# Altium footprint library PcbLib1.PcbLib: 26 footprints (part 2 of 2)
Each footprint in its own frame and in the unit in brackets; x right, y up, seen from the top. Pads: shape width x height; smd on the part's side, far side on the other; paste and mask are expansions set on the pad; w line width, h text height; cw(c..) or ccw(c..) is an arc to the next point about the centre after c.
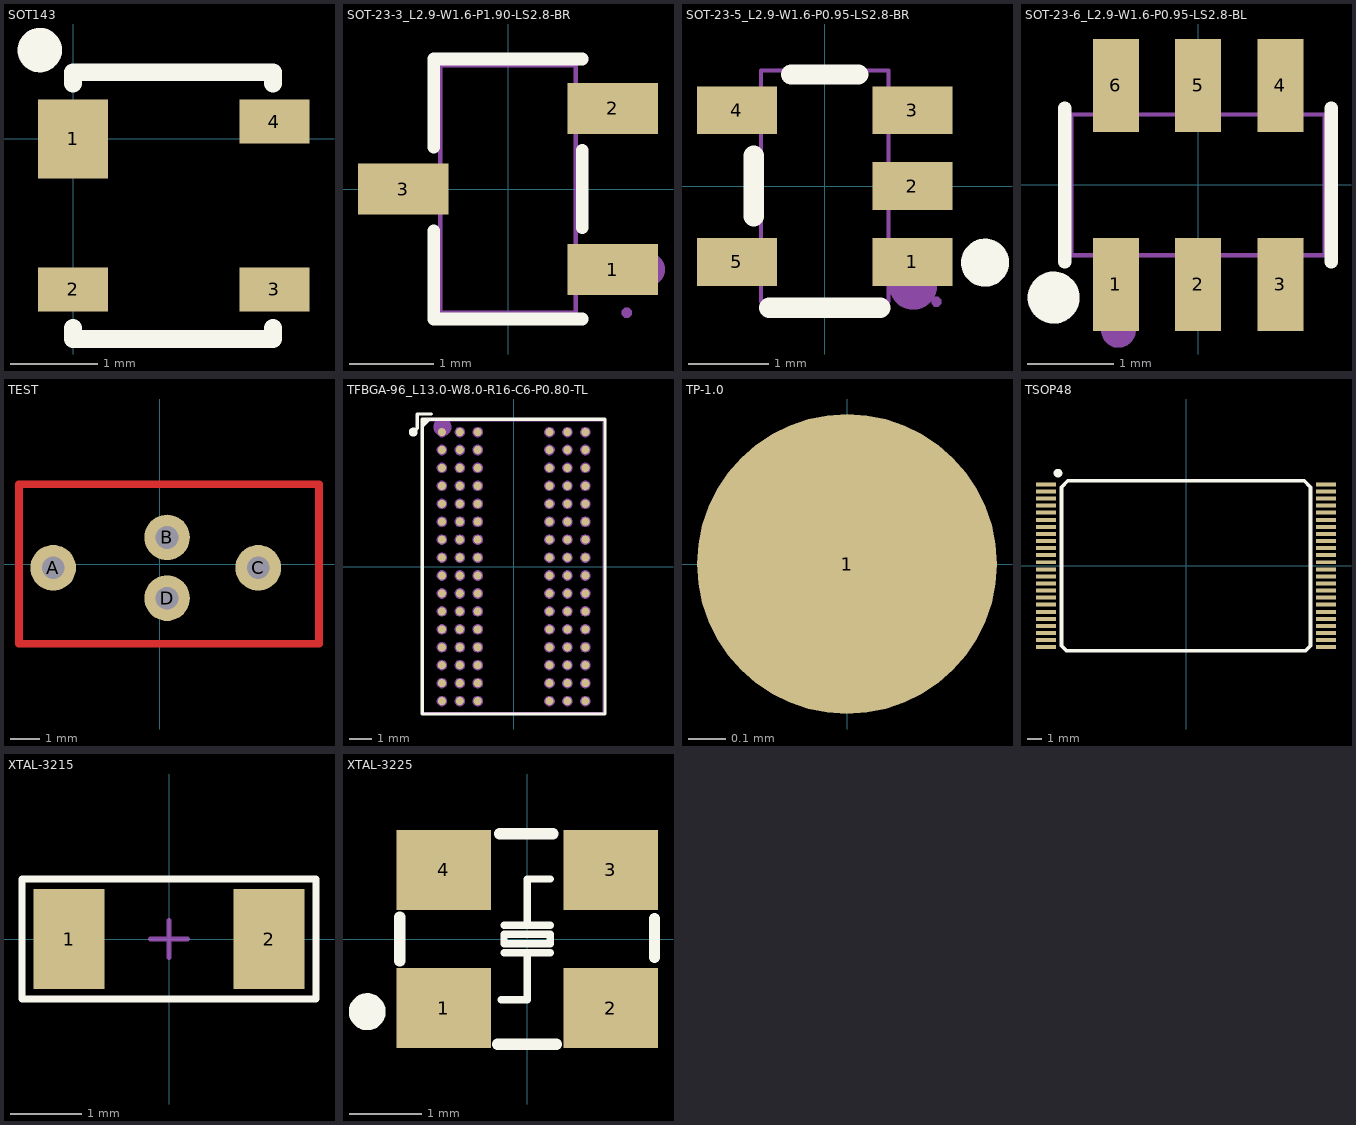
[diagram p1: the footprints below, top view; thin cyan lines are the x and y axes]

## SOT143 [mm]
pads (4):
  rect 0.8x0.9 smd: 1(0,0)
  rect 0.8x0.5 smd: 2(0,-1.72) 3(2.3,-1.72) 4(2.3,0.2)
Top Overlay:
  circle w0.254: c-0.381,1.016 r0.127
  lines w0.203: 0,-2.159 0,-2.286 2.286,-2.286 2.286,-2.159 ; 0,0.635 0,0.762 2.286,0.762 2.286,0.635

## SOT-23-3_L2.9-W1.6-P1.90-LS2.8-BR [mm]
pads (3):
  rect 1.07x0.6 smd: 1(1.235,-0.95) 2(1.235,0.95) 3(-1.235,0)
Top Overlay:
  lines w0.152: -0.876,-0.495 -0.876,-1.536 0.876,-1.536 ; -0.876,0.495 -0.876,1.536 0.876,1.536 ; 0.876,-0.455 0.876,0.455
Mechanical 6:
  circle w0.2: c1.651,-0.95 r0.1
Mechanical 15:
  region: -0.96,-0.2 -0.96,0.2 -0.79,0.2 -0.79,-0.2
  region: -0.95,-0.2 -0.95,0.2 -1.4,0.2 -1.4,-0.2
  region: 0.79,0.75 0.79,1.15 0.96,1.15 0.96,0.75
  region: 0.95,0.75 0.95,1.15 1.4,1.15 1.4,0.75
  region: 0.79,-1.15 0.79,-0.75 0.96,-0.75 0.96,-1.15
  region: 0.95,-1.15 0.95,-0.75 1.4,-0.75 1.4,-1.15
  region: 1.46,-1.46 1.46,-1.435 1.425,-1.4 1.375,-1.4 1.34,-1.435 1.34,-1.46 1.34,-1.485 1.375,-1.52 1.425,-1.52 1.46,-1.485 1.46,-1.46
  lines w0.051: -0.8,-1.46 0.8,-1.46 0.8,1.46 -0.8,1.46 -0.8,-1.46

## SOT-23-5_L2.9-W1.6-P0.95-LS2.8-BR [mm]
pads (5):
  rect 1x0.6 smd paste+0 mask+0.05: 1(1.1,-0.95) 2(1.1,0) 3(1.1,0.95) 4(-1.1,0.95) 5(-1.1,-0.95)
Top Overlay:
  circle w0.3: c2.01,-0.96 r0.15
  lines w0.254: -0.889,-0.381 -0.889,0.381 ; -0.699,-1.524 0.698,-1.524 ; -0.422,1.397 0.422,1.397
Mechanical 6:
  circle w0.3: c1.11,-1.25 r0.15
Mechanical 15:
  region: 1.46,-1.45 1.46,-1.425 1.425,-1.39 1.375,-1.39 1.34,-1.425 1.34,-1.45 1.34,-1.475 1.375,-1.51 1.425,-1.51 1.46,-1.475 1.46,-1.45
  region: -0.95,-1.15 -1.4,-1.15 -1.4,-0.75 -0.95,-0.75
  region: -0.79,-1.15 -0.96,-1.15 -0.96,-0.75 -0.79,-0.75
  region: -0.95,0.75 -1.4,0.75 -1.4,1.15 -0.95,1.15
  region: -0.79,0.75 -0.96,0.75 -0.96,1.15 -0.79,1.15
  region: 1.4,-1.15 0.95,-1.15 0.95,-0.75 1.4,-0.75
  region: 0.96,-1.15 0.79,-1.15 0.79,-0.75 0.96,-0.75
  region: 1.4,0.75 0.95,0.75 0.95,1.15 1.4,1.15
  region: 0.96,0.75 0.79,0.75 0.79,1.15 0.96,1.15
  region: 1.4,-0.2 0.95,-0.2 0.95,0.2 1.4,0.2
  region: 0.96,-0.2 0.79,-0.2 0.79,0.2 0.96,0.2
  lines w0.051: -0.8,-1.45 0.8,-1.45 0.8,1.45 -0.8,1.45 -0.8,-1.45

## SOT-23-6_L2.9-W1.6-P0.95-LS2.8-BL [mm]
pads (6):
  rect 0.532x1.072 smd: 1(-0.95,-1.149) 2(0,-1.149) 3(0.95,-1.149) 4(0.95,1.149) 5(0,1.149) 6(-0.95,1.149)
Top Overlay:
  circle w0.3: c-1.668,-1.301 r0.15
  lines w0.152: -1.539,-0.889 -1.539,0.889 ; 1.539,-0.889 1.539,0.889
Mechanical 6:
  circle w0.2: c-0.92,-1.68 r0.1
Mechanical 15:
  region: -1.403,-1.4 -1.404,-1.376 -1.439,-1.341 -1.488,-1.341 -1.522,-1.376 -1.523,-1.4 -1.522,-1.425 -1.487,-1.459 -1.438,-1.459 -1.404,-1.424 -1.403,-1.4
  region: -1.165,-0.925 -0.735,-0.925 -0.735,-1.4 -1.165,-1.4
  region: -1.165,-0.803 -0.735,-0.803 -0.735,-0.935 -1.165,-0.935
  region: -0.215,-0.925 0.215,-0.925 0.215,-1.4 -0.215,-1.4
  region: -0.215,-0.803 0.215,-0.803 0.215,-0.935 -0.215,-0.935
  region: 0.735,-0.925 1.165,-0.925 1.165,-1.4 0.735,-1.4
  region: 0.735,-0.803 1.165,-0.803 1.165,-0.935 0.735,-0.935
  region: 0.735,0.925 1.165,0.925 1.165,1.4 0.735,1.4
  region: 0.735,0.935 1.165,0.935 1.165,0.803 0.735,0.803
  region: -0.215,0.925 0.215,0.925 0.215,1.4 -0.215,1.4
  region: -0.215,0.935 0.215,0.935 0.215,0.803 -0.215,0.803
  region: -1.165,0.925 -0.735,0.925 -0.735,1.4 -1.165,1.4
  region: -1.165,0.935 -0.735,0.935 -0.735,0.803 -1.165,0.803
  lines w0.051: -1.463,-0.813 1.463,-0.813 1.463,0.813 -1.463,0.813 -1.463,-0.813

## TEST [mil] "this is a test"
pads (4):
  round 60 hole 30: A(-140,-5) B(10,35) C(130,-5) D(10,-45)
Top Layer:
  lines w10: -185,-105 210,-105 210,-85 210,75 210,105 -185,105 -185,75 -185,-85 -185,-105

## TFBGA-96_L13.0-W8.0-R16-C6-P0.80-TL [mm]
pads (96):
  round 0.36 smd paste+0 mask+0.05: A1(-3.2,6) A2(-2.4,6) A3(-1.6,6) A7(1.6,6) A8(2.4,6) A9(3.2,6) B1(-3.2,5.2) B2(-2.4,5.2) B3(-1.6,5.2) B7(1.6,5.2) B8(2.4,5.2) B9(3.2,5.2) C1(-3.2,4.4) C2(-2.4,4.4) C3(-1.6,4.4) C7(1.6,4.4) C8(2.4,4.4) C9(3.2,4.4) D1(-3.2,3.6) D2(-2.4,3.6) D3(-1.6,3.6) D7(1.6,3.6) D8(2.4,3.6) D9(3.2,3.6) E1(-3.2,2.8) E2(-2.4,2.8) E3(-1.6,2.8) E7(1.6,2.8) E8(2.4,2.8) E9(3.2,2.8) F1(-3.2,2) F2(-2.4,2) F3(-1.6,2) F7(1.6,2) F8(2.4,2) F9(3.2,2) G1(-3.2,1.2) G2(-2.4,1.2) G3(-1.6,1.2) G7(1.6,1.2) G8(2.4,1.2) G9(3.2,1.2) H1(-3.2,0.4) H2(-2.4,0.4) H3(-1.6,0.4) H7(1.6,0.4) H8(2.4,0.4) H9(3.2,0.4) J1(-3.2,-0.4) J2(-2.4,-0.4) J3(-1.6,-0.4) J7(1.6,-0.4) J8(2.4,-0.4) J9(3.2,-0.4) K1(-3.2,-1.2) K2(-2.4,-1.2) K3(-1.6,-1.2) K7(1.6,-1.2) K8(2.4,-1.2) K9(3.2,-1.2) L1(-3.2,-2) L2(-2.4,-2) L3(-1.6,-2) L7(1.6,-2) L8(2.4,-2) L9(3.2,-2) M1(-3.2,-2.8) M2(-2.4,-2.8) M3(-1.6,-2.8) M7(1.6,-2.8) M8(2.4,-2.8) M9(3.2,-2.8) N1(-3.2,-3.6) N2(-2.4,-3.6) N3(-1.6,-3.6) N7(1.6,-3.6) N8(2.4,-3.6) N9(3.2,-3.6) P1(-3.2,-4.4) P2(-2.4,-4.4) P3(-1.6,-4.4) P7(1.6,-4.4) P8(2.4,-4.4) P9(3.2,-4.4) R1(-3.2,-5.2) R2(-2.4,-5.2) R3(-1.6,-5.2) R7(1.6,-5.2) R8(2.4,-5.2) R9(3.2,-5.2) T1(-3.2,-6) T2(-2.4,-6) T3(-1.6,-6) T7(1.6,-6) T8(2.4,-6) T9(3.2,-6)
Top Overlay:
  circle w0.2: c-4.476,6 r0.1
  region: -3.676,6.576 -4.076,6.176 -4.076,6.576
  lines w0.152: -4.305,6.176 -4.305,6.805 -3.676,6.805 ; -4.076,-6.576 -4.076,6.576 4.076,6.576 4.076,-6.576 -4.076,-6.576
Mechanical 6:
  circle w0.4: c-3.175,6.223 r0.2
  region: -3.676,6.576 -4.076,6.176 -4.076,6.576
Mechanical 15:
  drawing of 101 lines, arcs and shapes, not listed

## TP-1.0 [mm]
pads (1):
  round 0.8 smd: 1(0,0)

## TSOP48 [mm]
pads (48):
  rect 1.4x0.28 smd: 1(-9.9,5.75) 2(-9.9,5.25) 3(-9.9,4.75) 4(-9.9,4.25) 5(-9.9,3.75) 6(-9.9,3.25) 7(-9.9,2.75) 8(-9.9,2.25) 9(-9.9,1.75) 10(-9.9,1.25) 11(-9.9,0.75) 12(-9.9,0.25) 13(-9.9,-0.25) 14(-9.9,-0.75) 15(-9.9,-1.25) 16(-9.9,-1.75) 17(-9.9,-2.25) 18(-9.9,-2.75) 19(-9.9,-3.25) 20(-9.9,-3.75) 21(-9.9,-4.25) 22(-9.9,-4.75) 23(-9.9,-5.25) 24(-9.9,-5.75) 25(9.9,-5.75) 26(9.9,-5.25) 27(9.9,-4.75) 28(9.9,-4.25) 29(9.9,-3.75) 30(9.9,-3.25) 31(9.9,-2.75) 32(9.9,-2.25) 33(9.9,-1.75) 34(9.9,-1.25) 35(9.9,-0.75) 36(9.9,-0.25) 37(9.9,0.25) 38(9.9,0.75) 39(9.9,1.25) 40(9.9,1.75) 41(9.9,2.25) 42(9.9,2.75) 43(9.9,3.25) 44(9.9,3.75) 45(9.9,4.25) 46(9.9,4.75) 47(9.9,5.25) 48(9.9,5.75)
Top Overlay:
  circle w0.305: c-9.048,6.55 r0.152
  lines w0.254: -0.729,6 0.795,6 ; -0.348,6 -8.35,6 -8.8,5.55 -8.8,-5.65 -8.45,-6 8.45,-6 8.8,-5.65 8.8,5.55 8.35,6 0.668,6
3D body "User Library-SST TSOP-48.STEP": height 1.2, standoff 0, extent -10.075,-6.096 10.125,6.104

## XTAL-3215 [mm]
pads (2):
  rect 1x1.4 smd: 1(-1.4,0) 2(1.4,0)
Top Overlay:
  lines w0.1: -2.057,-0.838 -2.057,0.838 2.057,0.838 2.057,-0.838 -2.057,-0.838
Mechanical 15:
  lines w0.076: -0.254,0 0.254,0 ; 0,-0.254 0,0.254
3D body "User Library-X3215.STEP": height 0.81, standoff 0, extent -1.6,-0.75 1.6,0.75

## XTAL-3225 [mm]
pads (4):
  rect 1.3x1.1 smd: 1(-1.15,-0.95) 2(1.15,-0.95) 3(1.15,0.95) 4(-1.15,0.95)
Top Overlay:
  circle w0.254: c-2.2,-1 r0.127
  lines w0.1: -0.317,-0.19 0.318,-0.19 ; -0.317,0.191 0.318,0.191 ; 0,-0.838 0,-0.19 ; 0,0.191 0,0.826 0.318,0.826 ; -0.317,-0.063 0.318,-0.063 0.318,0.064 -0.317,0.064 -0.317,-0.063
  lines w0.102: -0.356,-0.838 0,-0.838
  lines w0.152: -1.753,-0.305 -1.753,0.305 ; -0.406,-1.448 0.406,-1.448 ; -0.381,1.448 0.356,1.448 ; 1.753,-0.254 1.753,0.279
3D body "XTAL-3225.STEP": height 0.8, standoff 0, extent -1.6,-1.245 1.6,1.255